# EAGLE library part HC-05-EZ (library Passives)
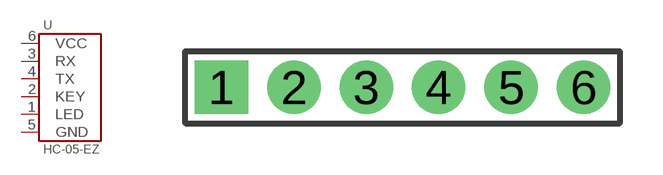
[diagram p4: symbol with the pads of M06X1; footprint M06X1]

Designator prefix U

## HC-05-EZ  [M06X1]
1  LED
2  KEY
3  RX
4  TX
5  GND
6  VCC

## Footprint M06X1 (pad centres in mm)
drill 1.016 pad 1.88 square: 1 -6.35,0
drill 1.016 pad 1.88: 2 -3.81,0; 3 -1.27,0; 4 1.27,0; 5 3.81,0; 6 6.35,0